# Altium footprint library General.PcbLib: 39 footprints (part 1 of 3)
Each footprint in its own frame and in the unit in brackets; x right, y up, seen from the top. Pads: shape width x height; smd on the part's side, far side on the other; paste and mask are expansions set on the pad; w line width, h text height; cw(c..) or ccw(c..) is an arc to the next point about the centre after c.
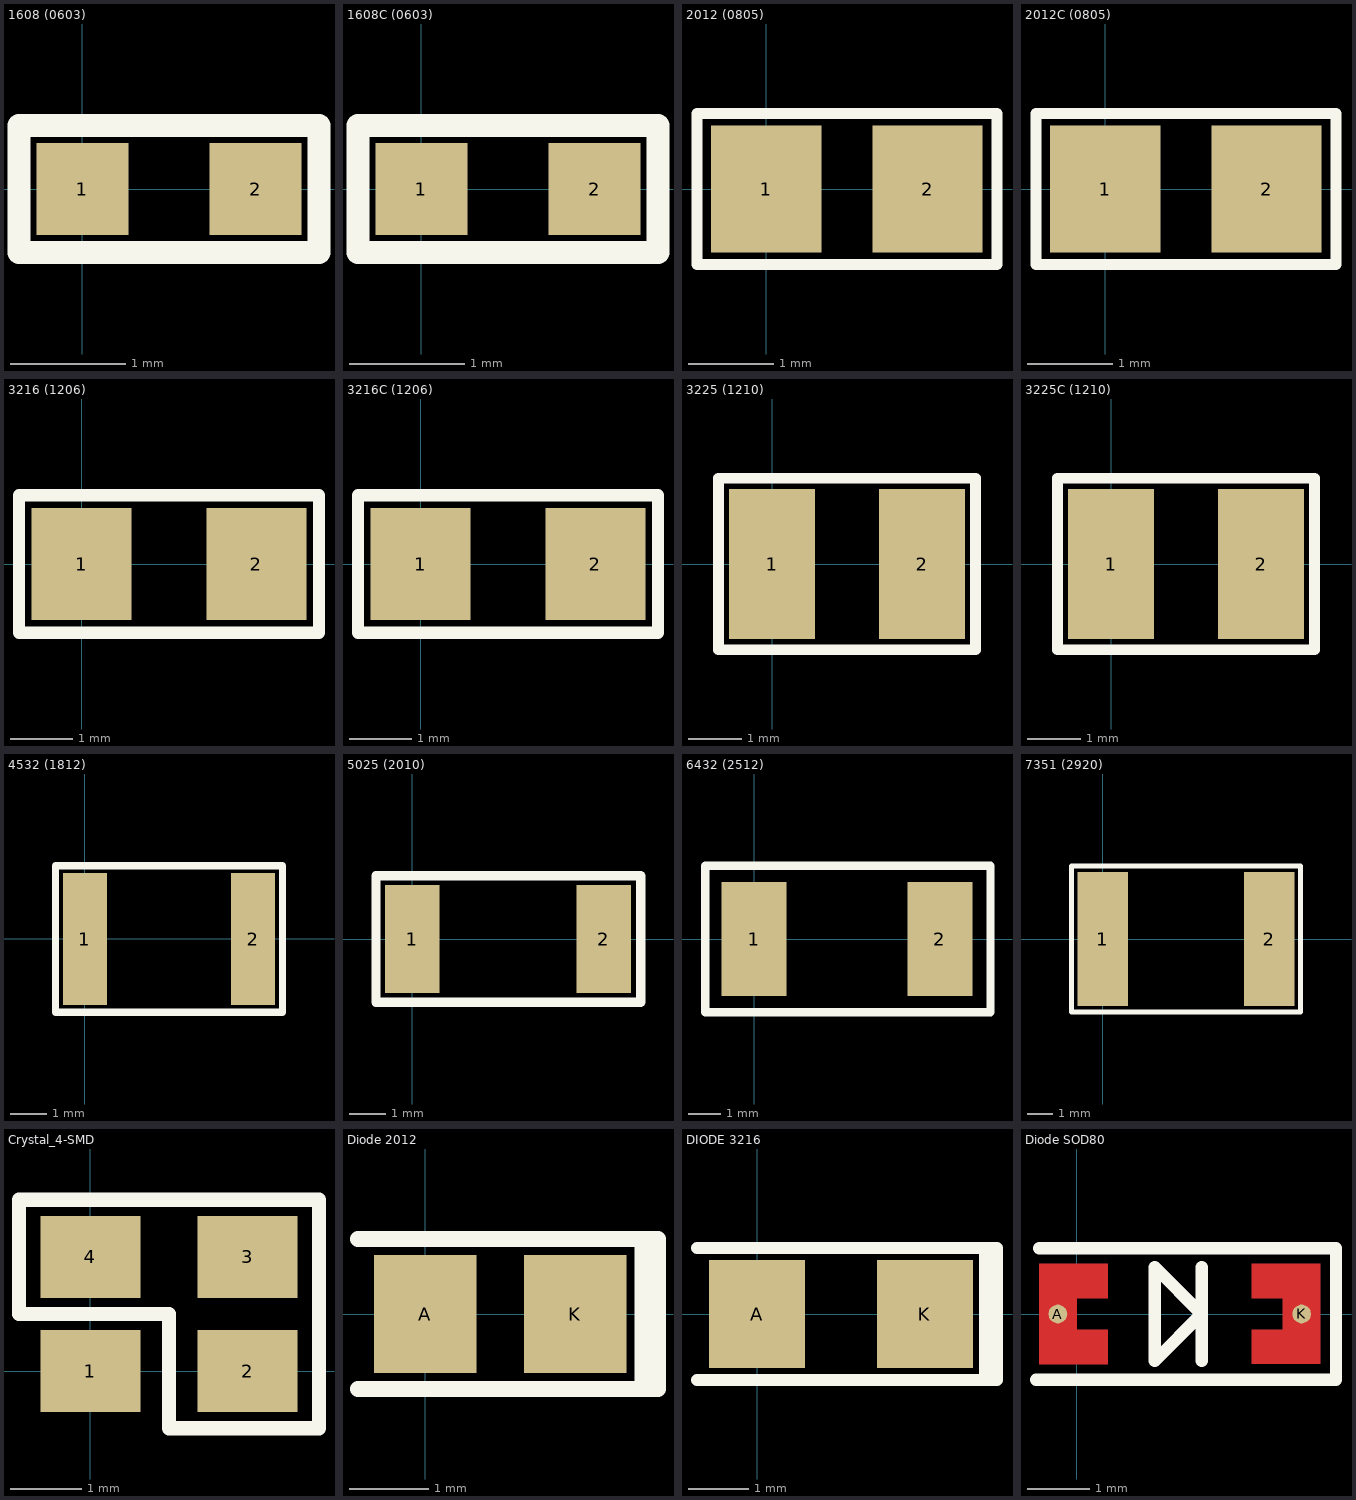
[diagram p0: the footprints below, top view; thin cyan lines are the x and y axes]

## 1608 (0603) [mm] "SMD chip component in 1608 (0603) package"
height 0.9
pads (2):
  rect 0.8x0.8 smd: 1(0,0) 2(1.5,0)
Top Overlay:
  lines w0.2: -0.55,-0.55 2.05,-0.55 2.05,0.55 -0.55,0.55 -0.55,-0.55
3D body "RES0603.stp": height 0.45, standoff 0, extent -0.05,-0.4 1.55,0.4

## 1608C (0603) [mm] "SMD chip component in 1608 (0603) package"
height 0.9
pads (2):
  rect 0.8x0.8 smd: 1(0,0) 2(1.5,0)
Top Overlay:
  lines w0.2: -0.55,-0.55 2.05,-0.55 2.05,0.55 -0.55,0.55 -0.55,-0.55
3D body "C0603_090.step": height 0.9, standoff 0, extent -0.025,-0.394 1.575,0.406

## 2012 (0805) [mm] "2012 (0805) Footprint"
pads (2):
  rect 1.3x1.5 smd: 1(0,0) 2(1.9,0)
Top Overlay:
  lines w0.127: -0.813,-0.889 2.718,-0.889 2.718,0.889 -0.813,0.889 -0.813,-0.889
3D body "RES0805.stp": height 0.5, standoff 0, extent -0.04,-0.62 1.96,0.63

## 2012C (0805) [mm] "2012 (0805) Footprint"
pads (2):
  rect 1.3x1.5 smd: 1(0,0) 2(1.9,0)
Top Overlay:
  lines w0.127: -0.813,-0.889 2.718,-0.889 2.718,0.889 -0.813,0.889 -0.813,-0.889
3D body "C0805_125.step": height 1.25, standoff 0, extent -0.035,-0.625 1.965,0.625

## 3216 (1206) [mm] "SMD chip component in 3216 (1206) package"
height 1
pads (2):
  rect 1.6x1.8 smd: 1(0,0) 2(2.8,0)
Top Overlay:
  lines w0.2: -1,-1.1 3.8,-1.1 3.8,1.1 -1,1.1 -1,-1.1
3D body "RES1206.stp": height 0.55, standoff 0, extent -0.15,-0.772 2.95,0.78

## 3216C (1206) [mm] "SMD chip component in 3216 (1206) package"
height 1
pads (2):
  rect 1.6x1.8 smd: 1(0,0) 2(2.8,0)
Top Overlay:
  lines w0.2: -1,-1.1 -1,1.1 3.8,1.1 3.8,-1.1 -1,-1.1
3D body "C1206_180.step": height 1.8, standoff 0, extent -0.177,-0.8 3.023,0.8

## 3225 (1210) [mm] "SMD chip component in 3225 (1210) package"
height 2.8
pads (2):
  rect 1.6x2.8 smd: 1(0,0) 2(2.8,0)
Top Overlay:
  lines w0.2: -1,-1.6 3.8,-1.6 3.8,1.6 -1,1.6 -1,-1.6
3D body "User Library-RESC3225X06N.STEP": height 0.55, standoff 0, extent -0.15,-1.25 3.05,1.25

## 3225C (1210) [mm] "SMD chip component in 3225 (1210) package"
height 2.8
pads (2):
  rect 1.6x2.8 smd: 1(0,0) 2(2.8,0)
Top Overlay:
  lines w0.2: -1,-1.6 3.8,-1.6 3.8,1.6 -1,1.6 -1,-1.6
3D body "C1210_210.step": height 2.1, standoff 0, extent -0.254,-1.25 2.946,1.25

## 4532 (1812) [mm]
pads (2):
  rect 1.2x3.6 smd: 1(0,0) 2(4.6,0)
Top Overlay:
  lines w0.2: -0.8,-2 5.4,-2 5.4,2 -0.8,2 -0.8,-2
3D body "CAP1812.stp": height 1.6, standoff 0, extent 0.05,-1.575 4.55,1.625

## 5025 (2010) [mm] "Genral 5025 (2010) Fooprint"
height 0.7
pads (2):
  rect 1.5x3 smd: 1(0,0) 2(5.3,0)
Top Overlay:
  lines w0.254: -1,-1.75 -1,1.75 6.325,1.75 6.325,-1.75 -1,-1.75
3D body "RES2010.stp": height 0.55, standoff 0, extent 0.2,-1.175 5.1,1.225

## 6432 (2512) [mil]
pads (2):
  rect 80x140 smd: 1(0,0) 2(228.35,0)
Top Overlay:
  lines w10: -59.84,-90 290.16,-90 290.16,90 -59.84,90 -59.84,-90
3D body "RES2512.stp": height 21.65, standoff 0, extent -10.23,-60.23 237.8,61.82

## 7351 (2920) [mm]
pads (2):
  rect 2x5.3 smd: 1(0,0) 2(6.6,0)
Top Overlay:
  lines w0.2: -1.25,-2.9 7.85,-2.9 7.85,2.9 -1.25,2.9 -1.25,-2.9
3D body "0ZCF_BEL.step": height 1.15, standoff 0, extent -0.688,-2.72 7.288,2.72

## Crystal_4-SMD [mm]
pads (4):
  rect 1.4x1.15 smd mask+0.05: 1(0,0) 2(2.2,0) 3(2.2,1.6) 4(0,1.6)
Top Overlay:
  lines w0.2: -1,0.8 1.1,0.8 1.1,-0.8 3.2,-0.8 3.2,2.4 1.1,2.4 -1,2.4 -1,0.8
3D body "ECS-540-8-33-JTN-TR--3DModel-STEP-56544.STEP": height 0.8, standoff 0, extent -0.5,-0.45 2.7,2.05

## Diode 2012 [mm]
pads (2):
  rect 1.3x1.5 smd: A(0,0) K(1.9,0)
Top Overlay:
  lines w0.2: -0.85,-0.95 2.95,-0.95 2.95,0.95 -0.85,0.95 ; 2.75,-0.95 2.75,0.95

## DIODE 3216 [mm] "SMD Diode in 3216 (1206) package"
height 1
pads (2):
  rect 1.6x1.8 smd: A(0,0) K(2.8,0)
Top Overlay:
  lines w0.2: -1,-1.1 4,-1.1 4,1.1 -1,1.1 ; 3.8,-1.1 3.8,1.1
3D body "User Library-D1206.STEP": height 0.85, standoff 0, extent -0.189,-0.865 3.161,0.865

## Diode SOD80 [mm]
pads (2):
  round 0.3 smd: A(-0.3,0) K(3.6,0)
Top Layer:
  region: -0.6,0.8 -0.6,-0.8 0.5,-0.8 0.5,-0.25 0,-0.25 0,0.25 0.5,0.25 0.5,0.8
  region: 3.9,-0.8 3.9,0.8 2.8,0.8 2.8,0.25 3.3,0.25 3.3,-0.25 2.8,-0.25 2.8,-0.8
Top Overlay:
  lines w0.2: -0.65,-1.05 4.15,-1.05 4.15,1.05 -0.6,1.05 ; 2,-0.75 2,0.75 ; 2,0 1.25,-0.75 1.25,0.75 2,0 ; 2,0 2,0
3D body "SOD-80 MiniMELF.stp": height 1.6, standoff 0, extent -0.2,-0.8 3.5,0.8